# EAGLE library part MAX17634C (library robohat)
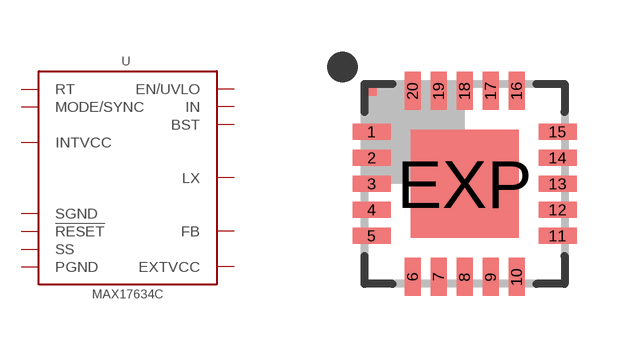
[diagram p1: symbol with the pads of TQFN20-5X5; footprint TQFN20-5X5]

Designator prefix -

## MAX17634C  [TQFN20-5X5]
1  PGND
2  IN
3  IN
4  EN/UVLO
5  !RESET
6  INTVCC
7  SGND
8  SS
9  FB
10  RT
11  MODE/SYNC
12  EXTVCC
14  IN
15  PGND
17  LX
18  LX
19  LX
20  BST
EXP  SGND

## Footprint TQFN20-5X5 (pad centres in mm)
THIN QFN 20 5x5x0.75mm Source: http://pdfserv.maxim-ic.com/package_dwgs/21-0140.PDF
smd 0.95 x 0.4: 1 -2.325,1.3; 2 -2.325,0.65; 3 -2.325,0; 4 -2.325,-0.65; 5 -2.325,-1.3; 11 2.325,-1.3; 12 2.325,-0.65; 13 2.325,0; 14 2.325,0.65; 15 2.325,1.3
smd 0.4 x 0.95: 6 -1.3,-2.325; 7 -0.65,-2.325; 8 0,-2.325; 9 0.65,-2.325; 10 1.3,-2.325; 16 1.3,2.325; 17 0.65,2.325; 18 0,2.325; 19 -0.65,2.325; 20 -1.3,2.325
smd 2.7 x 2.7: EXP 0,0